# Altium footprint library eBug2014-Parallella-Carrier-V.PcbLib: 5 footprints
Each footprint in its own frame and in the unit in brackets; x right, y up, seen from the top. Pads: shape width x height; smd on the part's side, far side on the other; paste and mask are expansions set on the pad; w line width, h text height; cw(c..) or ccw(c..) is an arc to the next point about the centre after c.
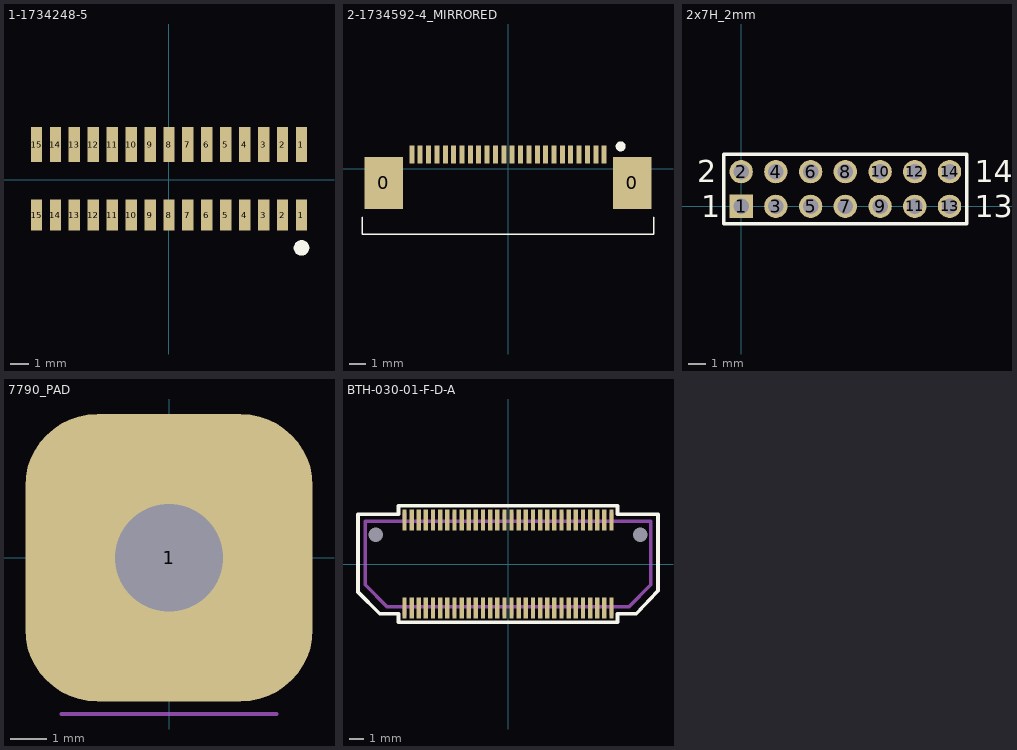
[diagram p0: the footprints below, top view; thin cyan lines are the x and y axes]

## 1-1734248-5 [mm]
pads (30):
  rect 0.6x1.65 smd: 1(7,-1.862) 2(6,-1.862) 3(5,-1.862) 4(4,-1.862) 5(3,-1.862) 6(2,-1.862) 7(1,-1.862) 8(0,-1.862) 9(-1,-1.862) 10(-2,-1.862) 11(-3,-1.862) 12(-4,-1.862) 13(-5,-1.862) 14(-6,-1.862) 15(-7,-1.862)
  rect 0.6x1.85 smd: 1(7,1.863) 2(6,1.863) 3(5,1.863) 4(4,1.863) 5(3,1.863) 6(2,1.863) 7(1,1.863) 8(0,1.863) 9(-1,1.863) 10(-2,1.863) 11(-3,1.863) 12(-4,1.863) 13(-5,1.863) 14(-6,1.863) 15(-7,1.863)
Top Overlay:
  circle w0.5: c7,-3.6 r0.16
3D body "c-1-1734248-5-e-3d.stp": height 5.69, standoff 0.01, extent -11.2,-2.338 11.2,2.512

## 2-1734592-4_MIRRORED [mm]
pads (26):
  rect 2.3x3.1 smd: 0(-7.42,-0.85) 0(7.42,-0.85)
  rect 0.3x1.1 smd: 1(5.75,0.85) 2(5.25,0.85) 3(4.75,0.85) 4(4.25,0.85) 5(3.75,0.85) 6(3.25,0.85) 7(2.75,0.85) 8(2.25,0.85) 9(1.75,0.85) 10(1.25,0.85) 11(0.75,0.85) 12(0.25,0.85) 13(-0.25,0.85) 14(-0.75,0.85) 15(-1.25,0.85) 16(-1.75,0.85) 17(-2.25,0.85) 18(-2.75,0.85) 19(-3.25,0.85) 20(-3.75,0.85) 21(-4.25,0.85) 22(-4.75,0.85) 23(-5.25,0.85) 24(-5.75,0.85)
Top Overlay:
  circle w0.3: c6.74,1.34 r0.15
  lines w0.1: -8.715,-2.91 -8.715,-3.91 8.715,-3.91 8.715,-2.91
3D body "c-2-1734592-4-c-3d.stp": height 2.06, standoff 0.01, extent -8.715,-3.91 8.715,1.2

## 2x7H_2mm [mil]
pads (14):
  rect 53x53 hole 35: 1(0,0)
  round 53 hole 35: 2(0,78.74) 3(78.74,0) 4(78.74,78.74) 5(157.48,0) 6(157.48,78.74) 7(236.22,0) 8(236.22,78.74) 9(314.96,0) 10(314.96,78.74) 11(393.7,0) 12(393.7,78.74) 13(472.44,0) 14(472.44,78.74)
Top Overlay:
  lines w7.87: -39.37,-39.37 511.81,-39.37 511.81,118.11 -39.37,118.11 -39.37,-39.37
  text "13" at 530,-25 h50
  text "14" at 530,55 h50
  text "1" at -90,-25 h50
  text "2" at -100,55 h50

## 7790_PAD [mm]
pads (1):
  rrect50% 8x8 hole 3: 1(0,0)
Mechanical 1:
  lines w0.1: -3,-4.35 3,-4.35

## BTH-030-01-F-D-A [mm]
pads (62):
  rect 0.305x1.448 smd mask+0.05: 1(-7.25,3.086) 2(-7.25,-3.086) 3(-6.75,3.086) 4(-6.75,-3.086) 5(-6.25,3.086) 6(-6.25,-3.086) 7(-5.75,3.086) 8(-5.75,-3.086) 9(-5.25,3.086) 10(-5.25,-3.086) 11(-4.75,3.086) 12(-4.75,-3.086) 13(-4.25,3.086) 14(-4.25,-3.086) 15(-3.75,3.086) 16(-3.75,-3.086) 17(-3.25,3.086) 18(-3.25,-3.086) 19(-2.75,3.086) 20(-2.75,-3.086) 21(-2.25,3.086) 22(-2.25,-3.086) 23(-1.75,3.086) 24(-1.75,-3.086) 25(-1.25,3.086) 26(-1.25,-3.086) 27(-0.75,3.086) 28(-0.75,-3.086) 29(-0.25,3.086) 30(-0.25,-3.086) 31(0.25,3.086) 32(0.25,-3.086) 33(0.75,3.086) 34(0.75,-3.086) 35(1.25,3.086) 36(1.25,-3.086) 37(1.75,3.086) 38(1.75,-3.086) 39(2.25,3.086) 40(2.25,-3.086) 41(2.75,3.086) 42(2.75,-3.086) 43(3.25,3.086) 44(3.25,-3.086) 45(3.75,3.086) 46(3.75,-3.086) 47(4.25,3.086) 48(4.25,-3.086) 49(4.75,3.086) 50(4.75,-3.086) 51(5.25,3.086) 52(5.25,-3.086) 53(5.75,3.086) 54(5.75,-3.086) 55(6.25,3.086) 56(6.25,-3.086) 57(6.75,3.086) 58(6.75,-3.086) 59(7.25,3.086) 60(7.25,-3.086)
  round 0.6 hole 1.016 unplated mask+0.458: 61(-9.246,2.032) 62(9.246,2.032)
Top Overlay:
  lines w0.254: -10.501,-1.961 -10.501,3.485 -7.663,3.485 -7.663,4.07 7.663,4.07 7.663,3.485 10.501,3.485 10.501,-1.876 8.977,-3.485 7.663,-3.485 7.663,-4.07 -7.663,-4.07 -7.663,-3.485 -8.977,-3.485 -10.501,-1.961
Mechanical 1:
  lines w0.254: -7.25,-3.556 -7.25,-2.985 ; -7.25,2.985 -7.25,3.556 ; -6.75,-3.556 -6.75,-2.985 ; -6.75,2.985 -6.75,3.556 ; -6.25,-3.556 -6.25,-2.985 ; -6.25,2.985 -6.25,3.556 ; -5.75,-3.556 -5.75,-2.985 ; -5.75,2.985 -5.75,3.556 ; -5.25,-3.556 -5.25,-2.985 ; -5.25,2.985 -5.25,3.556 ; -4.75,-3.556 -4.75,-2.985 ; -4.75,2.985 -4.75,3.556 ; -4.25,-3.556 -4.25,-2.985 ; -4.25,2.985 -4.25,3.556 ; -3.75,-3.556 -3.75,-2.985 ; -3.75,2.985 -3.75,3.556 ; -3.25,-3.556 -3.25,-2.985 ; -3.25,2.985 -3.25,3.556 ; -2.75,-3.556 -2.75,-2.985 ; -2.75,2.985 -2.75,3.556 ; -2.25,-3.556 -2.25,-2.985 ; -2.25,2.985 -2.25,3.556 ; -1.75,-3.556 -1.75,-2.985 ; -1.75,2.985 -1.75,3.556 ; -1.25,-3.556 -1.25,-2.985 ; -1.25,2.985 -1.25,3.556 ; -0.75,-3.556 -0.75,-2.985 ; -0.75,2.985 -0.75,3.556 ; -0.25,-3.556 -0.25,-2.985 ; -0.25,2.985 -0.25,3.556 ; 0.25,-3.556 0.25,-2.985 ; 0.25,2.985 0.25,3.556 ; 0.75,-3.556 0.75,-2.985 ; 0.75,2.985 0.75,3.556 ; 1.25,-3.556 1.25,-2.985 ; 1.25,2.985 1.25,3.556 ; 1.75,-3.556 1.75,-2.985 ; 1.75,2.985 1.75,3.556 ; 2.25,-3.556 2.25,-2.985 ; 2.25,2.985 2.25,3.556 ; 2.75,-3.556 2.75,-2.985 ; 2.75,2.985 2.75,3.556 ; 3.25,-3.556 3.25,-2.985 ; 3.25,2.985 3.25,3.556 ; 3.75,-3.556 3.75,-2.985 ; 3.75,2.985 3.75,3.556 ; 4.25,-3.556 4.25,-2.985 ; 4.25,2.985 4.25,3.556 ; 4.75,-3.556 4.75,-2.985 ; 4.75,2.985 4.75,3.556 ; 5.25,-3.556 5.25,-2.985 ; 5.25,2.985 5.25,3.556 ; 5.75,-3.556 5.75,-2.985 ; 5.75,2.985 5.75,3.556 ; 6.25,-3.556 6.25,-2.985 ; 6.25,2.985 6.25,3.556 ; 6.75,-3.556 6.75,-2.985 ; 6.75,2.985 6.75,3.556 ; 7.25,-3.556 7.25,-2.985 ; 7.25,2.985 7.25,3.556 ; -10.001,-1.461 -10.001,2.985 10.001,2.985 10.001,-1.461 8.477,-2.985 -8.477,-2.985 -10.001,-1.461
  text "J1" at 0.94,0.165 h0.76
3D body "BTH-030-01-F-D.stp": height 4.27, standoff 0, extent -10.001,-3.556 10.001,3.556